# Altium footprint library R_1206.PcbLib: 1 footprints
Each footprint in its own frame and in the unit in brackets; x right, y up, seen from the top. Pads: shape width x height; smd on the part's side, far side on the other; paste and mask are expansions set on the pad; w line width, h text height; cw(c..) or ccw(c..) is an arc to the next point about the centre after c.
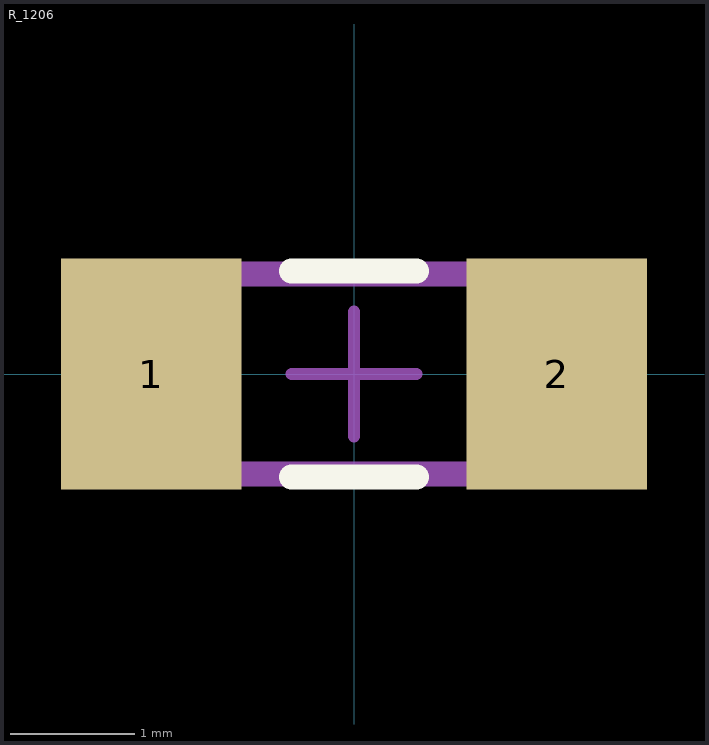
[diagram p0: the footprint, top view; thin cyan lines are the x and y axes]

## R_1206 [mm] "Chip Capacitor, 2-Leads, Body 3,2x1,6mm, IPC Low Density"
height 1.5
pads (2):
  rect 1.45x1.85 smd: 1(-1.625,0) 2(1.625,0)
Top Overlay:
  lines w0.2: -0.5,-0.825 0.5,-0.825 ; -0.5,0.825 0.5,0.825
Mechanical 13:
  lines w0.2: -1.6,-0.8 1.6,-0.8 1.6,0.8 -1.6,0.8 -1.6,-0.8
  text ".Designator" at -1.143,-0.508 h1.5
Mechanical 15:
  lines w0.1: -0.5,0 0.5,0 ; 0,-0.5 0,0.5
3D body: height 0.6, standoff 0, extent -1.6,-0.8 1.6,0.8